# EAGLE library part MICRO_USB_2.0 (library Interface)
Micro USB 2.0
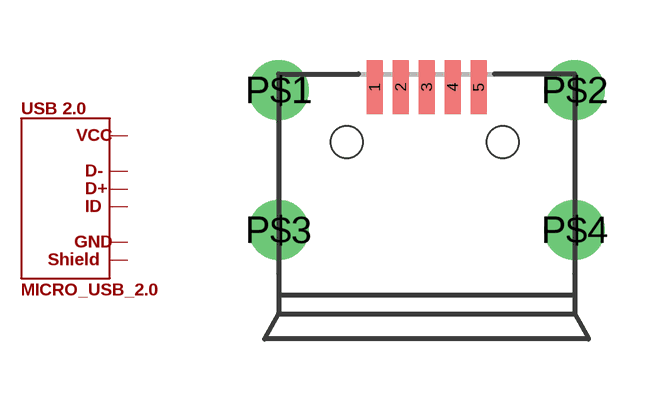
[diagram p6: symbol with the pads of MICRO-USB5+4P-SMD-0.65; footprint MICRO-USB5+4P-SMD-0.65]

Designator prefix USB_CON

## MICRO_USB_2.0  [MICRO-USB5+4P-SMD-0.65]
1  P$1
2  P$2
3  P$3
4  P$4
5  P$5
P$1  P$6
P$2  P$6
P$3  P$6
P$4  P$6

## Footprint MICRO-USB5+4P-SMD-0.65 (pad centres in mm)
smd 0.4 x 1.35: 1 -1.3,2.675; 2 -0.65,2.675; 3 0,2.675; 4 0.65,2.675; 5 1.3,2.675
drill 1: P$1 -3.7,2.6; P$2 3.7,2.6; P$3 -3.7,-0.9; P$4 3.7,-0.9
hole 0.8 at -2,1.3
hole 0.8 at 1.9,1.3